# EAGLE library part ADG749 (library custom-devices)
2:1 Multiplexer
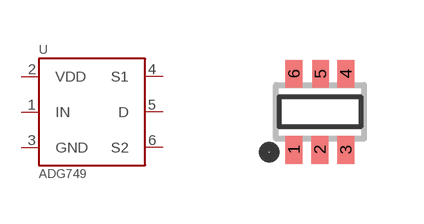
[diagram p12: symbol with the pads of SOT363; footprint SOT363]

Designator prefix U

## ADG749 (DIGI-KEY: ADG749BKSZ-REEL7CT-ND; MOUSER: 584-ADG749BKSZ-R7)  [SOT363]
1  IN
2  VDD
3  GND
4  S1
5  D
6  S2

## Footprint SOT363 (pad centres in mm)
smd 0.42 x 0.7: 1 -0.65,-0.95; 2 0,-0.95; 3 0.65,-0.95; 4 0.65,0.95; 5 0.015,0.95; 6 -0.65,0.95